# Altium footprint library Res1 2k.PCBLIB: 1 footprints
Each footprint in its own frame and in the unit in brackets; x right, y up, seen from the top. Pads: shape width x height; smd on the part's side, far side on the other; paste and mask are expansions set on the pad; w line width, h text height; cw(c..) or ccw(c..) is an arc to the next point about the centre after c.
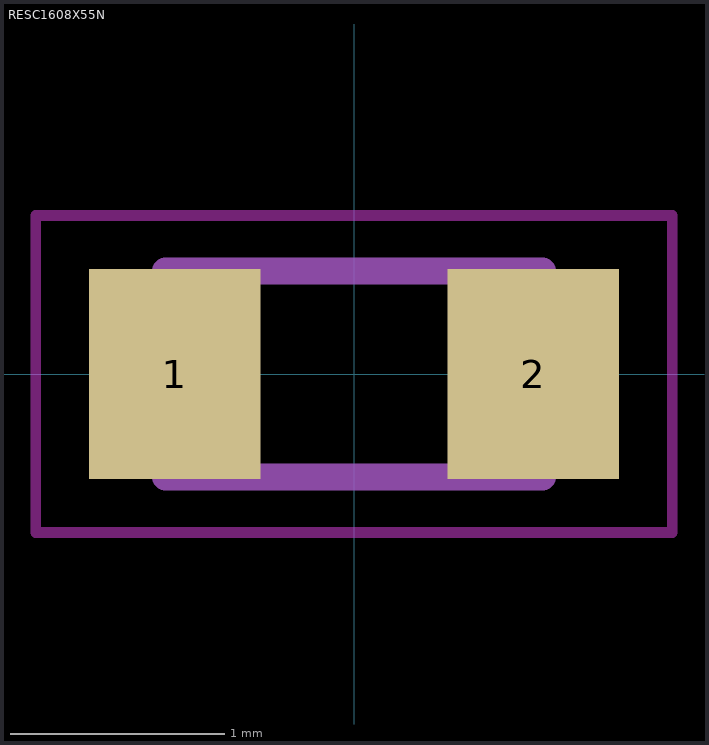
[diagram p0: the footprint, top view; thin cyan lines are the x and y axes]

## RESC1608X55N [mil]
pads (2):
  rect 31.5x38.58 smd: 1(-32.95,0) 2(32.95,0)
Top keep-out:
  lines w1.97: -58.46,-29.13 58.46,-29.13 58.46,29.13 -58.46,29.13 -58.46,-29.13
tDocu:
  lines w5: -34.65,-18.9 34.65,-18.9 34.65,18.9 -34.65,18.9 -34.65,-18.9
tPlace:
  lines w5: -4.72,-18.9 4.72,-18.9 ; -4.72,18.9 4.72,18.9